# Altium schematic symbol library leds.SchLib: 11 symbols
Pins are listed as number, name and electrical type; pins without a type are passive.

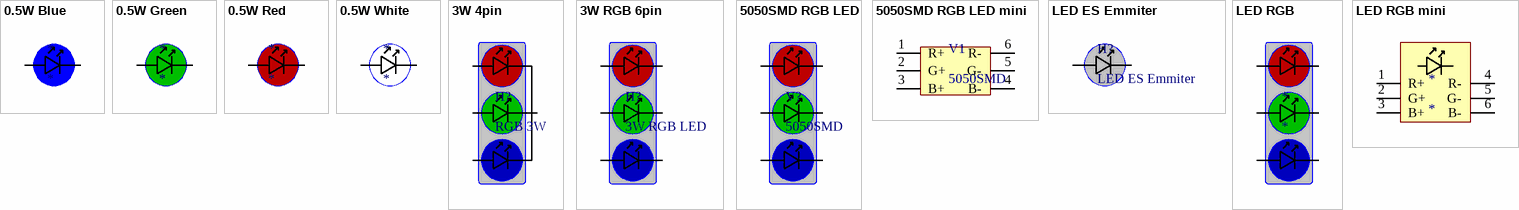
[diagram p0: symbols 0.5W Blue to LED RGB mini]

## 0.5W Blue
designator *
footprint SMD5630 (SMD/SMT 5630/5730)
footprint SMD5630 noHIT (SMD/SMT 5630/5730)
pins: 1 Anod +, 2 Anod -

## 0.5W Green
designator *
footprint SMD5630 (SMD/SMT 5630/5730)
footprint SMD5630 noHIT (SMD/SMT 5630/5730)
pins: 1 Anod +, 2 Anod -

## 0.5W Red
designator *
footprint SMD5630 (SMD/SMT 5630/5730)
footprint SMD5630 noHIT (SMD/SMT 5630/5730)
pins: 1 Anod +, 2 Anod -

## 0.5W White
designator *
footprint SMD5630 (SMD/SMT 5630/5730)
footprint SMD5630 noHIT (SMD/SMT 5630/5730)
pins: 1 Anod +, 2 Anod -

## 3W 4pin
designator H?, comment RGB 3W
LED RGB Emitter
footprint 3W Emitter 4pin (3 Color smd LED 3W)
pins: 1 Anod +, 2 Anod +, 3 Anod +, 4 Katod -

## 3W RGB 6pin
designator H?, comment 3W RGB LED
LED RGB Emitter
footprint 3W 6PIN RGB LED; pin to pad 4>6 6>4
footprint 3W 6PIN RGB LED NOHIT; pin to pad 4>6 6>4
pins: 1 Anod +, 2 Anod +, 3 Anod +, 4 Katod -, 5 Katod -, 6 Katod -

## 5050SMD RGB LED
designator V?, comment 5050SMD
footprint SMD5050 6PIN RGB
pins: 1 Anod +, 2 Anod +, 3 Anod +, 4 Katod -, 5 Katod -, 6 Katod -

## 5050SMD RGB LED mini
designator V1, comment 5050SMD
LED RGB
footprint SMD5050 6PIN RGB
pins: 1 R+, 2 G+, 3 B+, 4 B-, 5 G-, 6 R-

## LED ES Emmiter
designator H?
pins: 1 Anod +, 2 Katod -

## LED RGB
designator *
pins: 1 Anod +, 2 Anod +, 3 Anod +, 4 Katod -, 5 Katod -, 6 Katod -

## LED RGB mini
designator *
pins: 1 R+, 2 G+, 3 B+, 4 R-, 5 G-, 6 B-